# Altium schematic symbol library PRT-12807.SchLib: 1 symbol
Pins are listed as number, name and electrical type; pins without a type are passive.

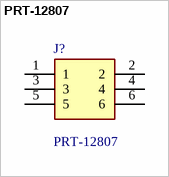
[diagram p0: symbol PRT-12807]

## PRT-12807
designator J?
SparkFun Accessories Header - 2x3 (Male, 0.1\"); Geometry.Height: 8.84mm; Mouser Part Number: 474-PRT-12807; Mouser Price/Stock: https://www.mouser.co.uk/ProductDetail/SparkFun/PRT-12807?qs=WyAARYrbSnYnpz4kKzOm4A%3D%3D; Manufacturer_Name: SparkFun; Manufacturer_Part_Number: PRT-12807; Datasheet Link: https://cdn.sparkfun.com/datasheets/Prototyping/00989.pdf
footprint HDRV6W82P254_2X3_762X500X884P
pins: 1, 2, 3, 4, 5, 6